# Altium footprint library 39301140.PcbLib: 1 footprints
Each footprint in its own frame and in the unit in brackets; x right, y up, seen from the top. Pads: shape width x height; smd on the part's side, far side on the other; paste and mask are expansions set on the pad; w line width, h text height; cw(c..) or ccw(c..) is an arc to the next point about the centre after c.
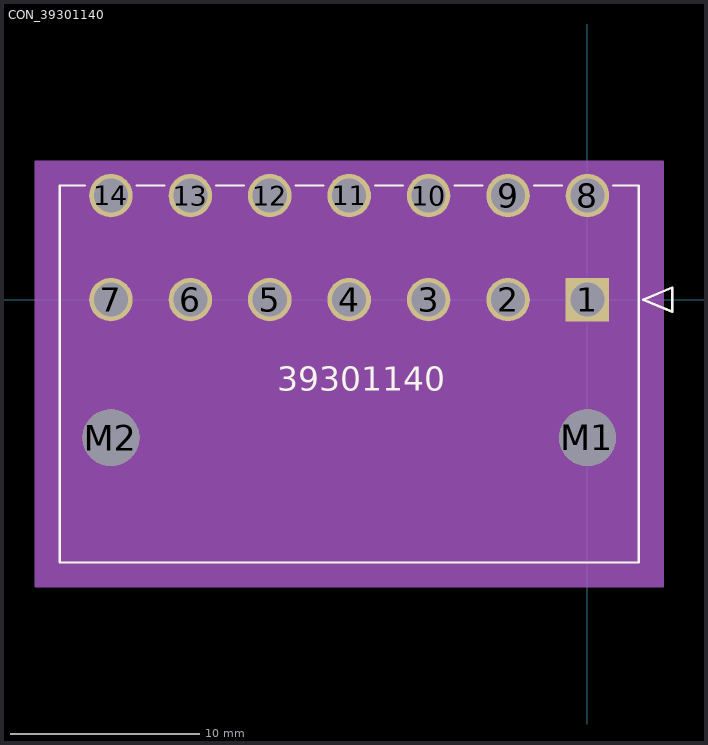
[diagram p0: the footprint, top view; thin cyan lines are the x and y axes]

## CON_39301140 [mm]
pads (16):
  rect 2.3x2.3 hole 1.8 mask+0.076: 1(0,0)
  round 2.3 hole 1.8 mask+0.076: 2(-4.2,0) 3(-8.4,0) 4(-12.6,0) 5(-16.8,0) 6(-21,0) 7(-25.2,0) 8(0,5.5) 9(-4.2,5.5) 10(-8.4,5.5) 11(-12.6,5.5) 12(-16.8,5.5) 13(-21,5.5) 14(-25.2,5.5)
  round 3 hole 3 unplated mask+0.076: M1(0,-7.3) M2(-25.2,-7.3)
Top Overlay:
  lines w0.127: -26.569,6.035 -27.9,6.035 -27.9,-13.9 2.7,-13.9 2.7,6.035 1.369,6.035 ; -23.831,6.035 -22.369,6.035 ; -19.631,6.035 -18.169,6.035 ; -15.431,6.035 -13.969,6.035 ; -11.231,6.035 -9.769,6.035 ; -7.031,6.035 -5.569,6.035 ; -2.831,6.035 -1.369,6.035 ; 2.954,0 4.478,0.635 4.478,-0.635 2.954,0
  text "39301140" at -16.41,-4.821 h1.27
Mechanical 13:
  lines w0.127: -27.9,-13.9 2.7,-13.9 2.7,6.035 -27.9,6.035 -27.9,-13.9 ; 2.954,0 4.478,0.635 4.478,-0.635 2.954,0
  text "39301140" at -16.383,-4.826 h1.27
Mechanical 15:
  region: 3.97,7.305 -29.17,7.305 -29.17,-15.17 3.97,-15.17
  lines w0.127: -29.17,-15.17 -29.17,7.305 3.97,7.305 3.97,-15.17 -29.17,-15.17
3D body: height 0.25, standoff 0, extent 0,0 0.254,0.254